# Altium integrated library MIC4427ZN.IntLib: 1 symbol
Pins are listed as number, name and electrical type; pins without a type are passive.

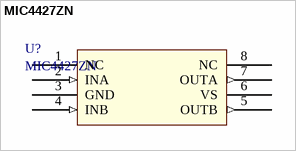
[diagram p0: symbol MIC4427ZN]

## MIC4427ZN
designator U?
IC GATE DRVR LOW-SIDE 8DIP; Mfr_Name: Micrel / Microchip Technology; RefDes: RefDes; Type: Type
footprint DIP787W46P254L927H533Q8
pins: 1 NC, 2 INA (in), 3 GND (power), 4 INB (in), 5 OUTB (out), 6 VS (power), 7 OUTA (out), 8 NC